# EAGLE library part 1140084168 (library 1140084168)
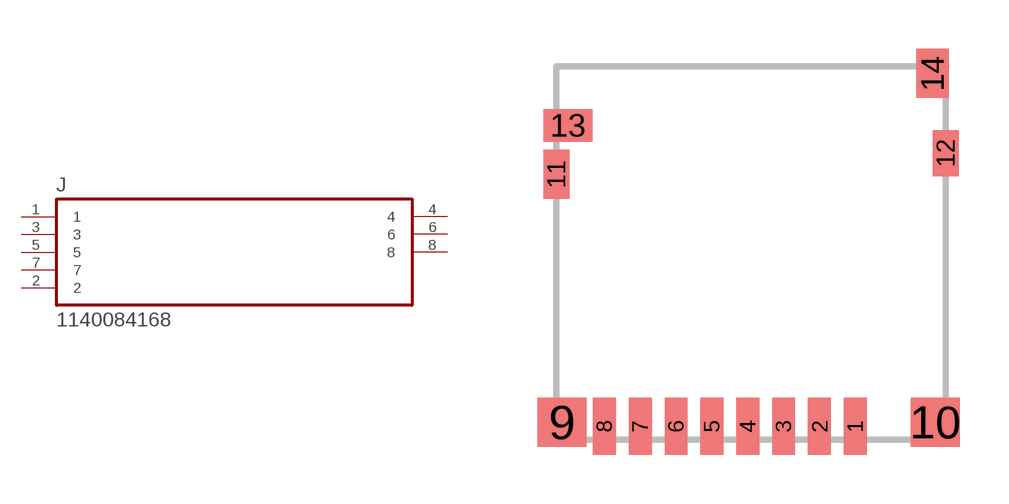
[diagram p0: symbol with the pads of 1140084168; footprint 1140084168]

Designator prefix J

## 1140084168 (Description: Memory Card Connector, Microsd, 8 Position, Full Reel; Digi-Key_Part_Number: 114-00841-68-1-ND; Digi-Key_Purchase_URL: https://www.digikey.com/product-detail/en/amphenol-icc-commercial-products/114-00841-68/114-00841-68-1-ND/2187101?utm_source=snapeda&utm_medium=aggregator&utm_campaign=symbol; MF: Amphenol ICC; MP: 114-00841-68; Package: None)  [1140084168]
1  1
2  2
3  3
4  4
5  5
6  6
7  7
8  8

## Footprint 1140084168 (pad centres in mm)
smd 0.7 x 1.75: 1 9.175,-11.038; 6 3.675,-11.038
smd 0.701 x 1.753: 2 8.075,-11.038; 8 1.475,-11.038
smd 0.701 x 1.752: 3 6.975,-11.038; 4 5.875,-11.038; 5 4.775,-11.038; 7 2.575,-11.038
smd 1.501 x 1.501: 9 0.175,-10.913
smd 1.502 x 1.502: 10 11.625,-10.913
smd 0.801 x 1.501: 11 0,-3.313
smd 0.8 x 1.401: 12 11.95,-2.663
smd 1.5 x 1: 13 0.355,-1.813
smd 1.001 x 1.502: 14 11.55,-0.213